# Altium schematic symbol library SCH - CONNECTORS - WE 662008230822.Schlib: 1 symbol
Pins are listed as number, name and electrical type; pins without a type are passive.

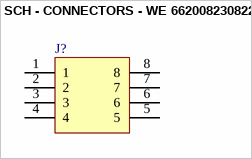
[diagram p0: symbol SCH - CONNECTORS - WE 662008230822]

## SCH - CONNECTORS - WE 662008230822
designator J?
footprint 662 008 230 822 (Würth 8pol SMD Connector)
pins: 1, 2, 3, 4, 5, 6, 7, 8